# Altium schematic symbol library LM358P.SchLib: 1 symbol
Pins are listed as number, name and electrical type; pins without a type are passive.

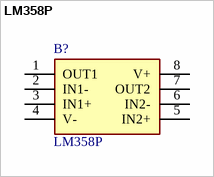
[diagram p0: symbol LM358P]

## LM358P
designator B?
LM358P, Dual Operational Amplifier 0.7MHz 5 to 28V, 8-Pin PDIP; Manufacturer_Name: Texas Instruments; Geometry.Height: 5.08mm; Mouser Part Number: 595-LM358P; Mouser Price/Stock: https://www.mouser.co.uk/ProductDetail/Texas-Instruments/LM358P?qs=X1HXWTtiZ0QtOTT8%252BVnsyw%3D%3D; Manufacturer_Part_Number: LM358P; Datasheet Link: http://www.ti.com/lit/ds/symlink/lm358a.pdf
footprint DIP794W53P254L959H508Q8N
pins: 1 OUT1, 2 IN1-, 3 IN1+, 4 V-, 5 IN2+, 6 IN2-, 7 OUT2, 8 V+